# Altium schematic symbol library 蜂汇ZigBee模块原理图.SchLib: 4 symbols
Pins are listed as number, name and electrical type; pins without a type are passive.

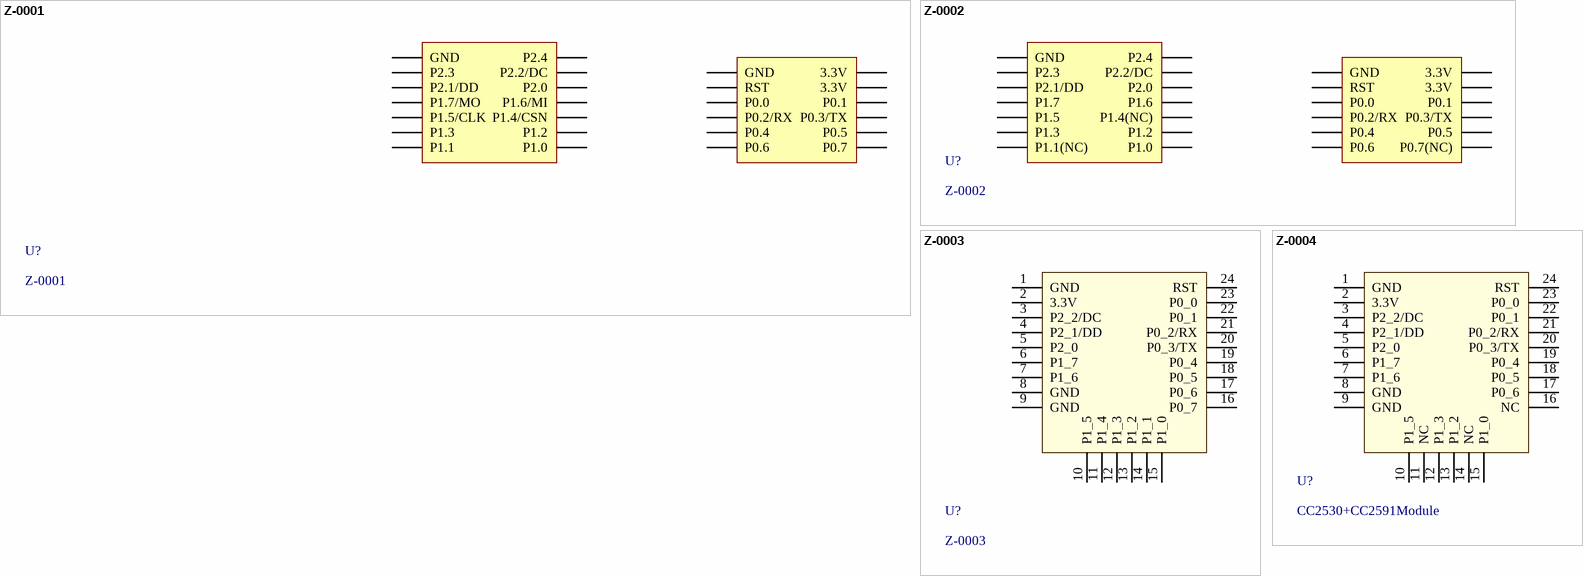
[diagram p0: symbols Z-0001 to Z-0004]

## Z-0001
designator U?
footprint Z-0001
pins: 1 GND, 2 P2.4, 3 P2.3, 4 P2.2/DC, 5 P2.1/DD, 6 P2.0, 7 P1.7/MO, 8 P1.6/MI, 9 P1.5/CLK, 10 P1.4/CSN, 11 P1.3, 12 P1.2, 13 P1.1, 14 P1.0, 15 GND, 16 3.3V, 17 RST, 18 3.3V, 19 P0.0, 20 P0.1, 21 P0.2/RX, 22 P0.3/TX, 23 P0.4, 24 P0.5, 25 P0.6, 26 P0.7

## Z-0002
designator U?
footprint Z-0002
pins: 1 GND, 2 P2.4, 3 P2.3, 4 P2.2/DC, 5 P2.1/DD, 6 P2.0, 7 P1.7, 8 P1.6, 9 P1.5, 10 P1.4(NC), 11 P1.3, 12 P1.2, 13 P1.1(NC), 14 P1.0, 15 GND, 16 3.3V, 17 RST, 18 3.3V, 19 P0.0, 20 P0.1, 21 P0.2/RX, 22 P0.3/TX, 23 P0.4, 24 P0.5, 25 P0.6, 26 P0.7(NC)

## Z-0003
designator U?
footprint CC2530Module
footprint Z-0003 (Zigbee,BLE Mini Core Muduel)
pins: 1 GND, 2 3.3V, 3 P2_2/DC, 4 P2_1/DD, 5 P2_0, 6 P1_7, 7 P1_6, 8 GND, 9 GND, 10 P1_5, 11 P1_4, 12 P1_3, 13 P1_2, 14 P1_1, 15 P1_0, 16 P0_7, 17 P0_6, 18 P0_5, 19 P0_4, 20 P0_3/TX, 21 P0_2/RX, 22 P0_1, 23 P0_0, 24 RST

## Z-0004
designator U?, comment CC2530+CC2591Module
footprint CC2530_CC2591Module
footprint Z-0004
pins: 1 GND, 2 3.3V, 3 P2_2/DC, 4 P2_1/DD, 5 P2_0, 6 P1_7, 7 P1_6, 8 GND, 9 GND, 10 P1_5, 11 NC, 12 P1_3, 13 P1_2, 14 NC, 15 P1_0, 16 NC, 17 P0_6, 18 P0_5, 19 P0_4, 20 P0_3/TX, 21 P0_2/RX, 22 P0_1, 23 P0_0, 24 RST